# Altium footprint library ABLS.PcbLib: 1 footprints
Each footprint in its own frame and in the unit in brackets; x right, y up, seen from the top. Pads: shape width x height; smd on the part's side, far side on the other; paste and mask are expansions set on the pad; w line width, h text height; cw(c..) or ccw(c..) is an arc to the next point about the centre after c.
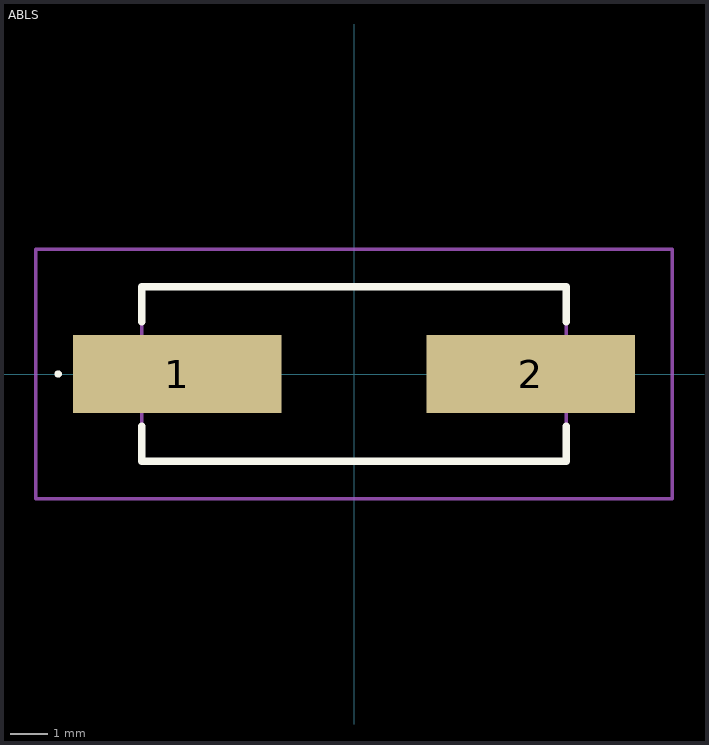
[diagram p0: the footprint, top view; thin cyan lines are the x and y axes]

## ABLS [mm]
pads (2):
  rect 5.6x2.1 smd: 1(-4.75,0) 2(4.75,0)
Top Overlay:
  lines w0.1: -8,0 -8,0 ; -8,0 ccw(c-7.95,0) -7.9,0 ; -8,0 cw(c-7.95,0) -7.9,0 ; -7.9,0 -7.9,0
  lines w0.2: -5.7,-1.4 -5.7,-2.35 5.7,-2.35 5.7,-1.4 ; -5.7,1.4 -5.7,2.35 5.7,2.35 5.7,1.4
Mechanical 15:
  lines w0.1: -5.7,-2.35 5.7,-2.35 5.7,2.35 -5.7,2.35 -5.7,-2.35
Mechanical 20:
  lines w0.1: -8.55,-3.35 8.55,-3.35 8.55,3.35 -8.55,3.35 -8.55,-3.35
3D body "ABLS-12.000MHZ-B4-T.stp": height 5.8, standoff -4.65, extent -10,-3.376 10,3.376